# Altium footprint library PCB - CONNECTOR - HARWIN - HARWIN M50-3140345.PcbLib: 1 footprints
Each footprint in its own frame and in the unit in brackets; x right, y up, seen from the top. Pads: shape width x height; smd on the part's side, far side on the other; paste and mask are expansions set on the pad; w line width, h text height; cw(c..) or ccw(c..) is an arc to the next point about the centre after c.
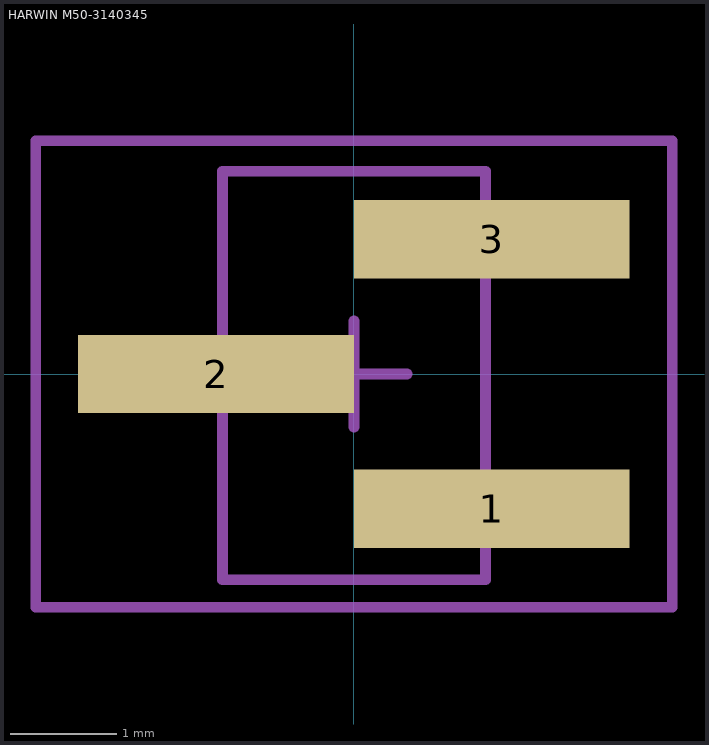
[diagram p0: the footprint, top view; thin cyan lines are the x and y axes]

## HARWIN M50-3140345 [mm]
pads (3):
  rect 2.6x0.74 smd: 1(1.3,-1.27) 2(-1.3,0) 3(1.3,1.27)
Mechanical 13:
  lines w0.1: -1.24,-1.94 -1.24,1.91 1.24,1.91 1.24,-1.94 -1.24,-1.94
Mechanical 15:
  lines w0.1: -0.5,0 0.5,0 ; 0,-0.5 0,0.5 ; -3,-2.2 -3,2.2 3,2.2 3,-2.2 -3,-2.2
3D body "Harwin M50-3140345.step": height 3.6, standoff 0, extent -1.6,-2.105 1.6,2.105